# EAGLE library part A3966 (library RobotElementy)
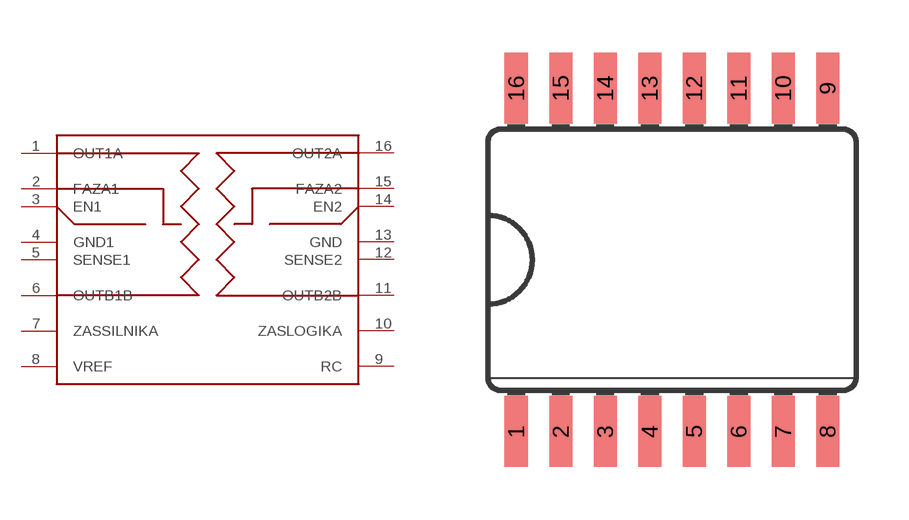
[diagram p0: symbol with the pads of SO16L; footprint SO16L]

Designator prefix -

## A3966  [SO16L]
1  OUT1A
2  FAZA1
3  EN1
4  GND1
5  SENSE1
6  OUTB1B
7  ZASSILNIKA
8  VREF
9  RC
10  ZASLOGIKA
11  OUTB2B
12  SENSE2
13  GND
14  EN2
15  FAZA2
16  OUT2A

## Footprint SO16L (pad centres in mm)
Small Outline Package .300 SIOC Source: http://www.maxim-ic.com/cgi-bin/packages?pkg=16%2FSOIC%2E300&Type=Max
smd 0.66 x 2.032: 1 -4.445,-4.902; 2 -3.175,-4.902; 3 -1.905,-4.902; 4 -0.635,-4.902; 5 0.635,-4.902; 6 1.905,-4.902; 7 3.175,-4.902; 8 4.445,-4.902; 9 4.445,4.902; 10 3.175,4.902; 11 1.905,4.902; 12 0.635,4.902; 13 -0.635,4.902; 14 -1.905,4.902; 15 -3.175,4.902; 16 -4.445,4.902